# Altium schematic symbol library WP-THRBU.SchLib: 16 symbols
Pins are listed as number, name and electrical type; pins without a type are passive.

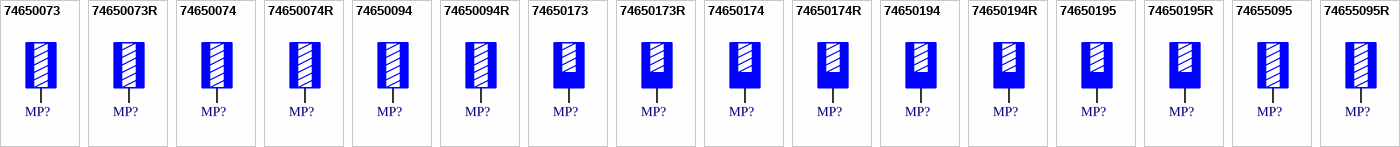
[diagram p0: symbols 74650073 to 74655095R]

## 74650073
designator MP?, comment M3 x 2.5mm  (value not drawn)
WP-THRBU REDCUBE THR internal through-hole thread, M3 x 2.5mm, 50A; Manufacturer Part Number: 74650073; Manufacturer: Wurth Elektronik; Surface: Tin; ComponentLink1Description: Website Link; ComponentLink1URL: https://www.we-online.com/redexpert/article/74650073?ad; ComponentLink2Description: Datasheet Link; ComponentLink2URL: https://www.we-online.com/redexpert/spec/74650073?ad; Category: REDCUBE THR; Match Code: WP-THRBU; Mount: Through Hole Reflow; Operating Temperature Max: 150°C; Operating Temperature Min: -55°C; Packaging: Bulk; Length: 7mm; Width: 7mm; Height: 3mm; Material: Brass; Number of Pins: 4; Rated Current: 50A; Thread Length: 2.5mm; Thread Size: M3
footprint 74650073
pins: 1

## 74650073R
designator MP?, comment M3 x 2.5mm  (value not drawn)
WP-THRBU REDCUBE THR internal through-hole thread, M3 x 2.5mm, 50A; Manufacturer Part Number: 74650073R; Manufacturer: Wurth Elektronik; Surface: Tin; ComponentLink1Description: Website Link; ComponentLink1URL: https://www.we-online.com/redexpert/article/74650073R?ad; ComponentLink2Description: Datasheet Link; ComponentLink2URL: https://www.we-online.com/redexpert/spec/74650073R?ad; Category: REDCUBE THR; Match Code: WP-THRBU; Mount: Through Hole Reflow; Operating Temperature Max: 150°C; Operating Temperature Min: -55°C; Packaging: Tape and Reel; Length: 7mm; Width: 7mm; Height: 3mm; Material: Brass; Number of Pins: 4; Rated Current: 50A; Thread Length: 2.5mm; Thread Size: M3
footprint 74650073
pins: 1

## 74650074
designator MP?, comment M4 x 2.5mm  (value not drawn)
WP-THRBU REDCUBE THR internal through-hole thread, M4 x 2.5mm, 50A; Manufacturer Part Number: 74650074; Manufacturer: Wurth Elektronik; Surface: Tin; ComponentLink1Description: Website Link; ComponentLink1URL: https://www.we-online.com/redexpert/article/74650074?ad; ComponentLink2Description: Datasheet Link; ComponentLink2URL: https://www.we-online.com/redexpert/spec/74650074?ad; Category: REDCUBE THR; Match Code: WP-THRBU; Mount: Through Hole Reflow; Operating Temperature Max: 150°C; Operating Temperature Min: -55°C; Packaging: Bulk; Length: 7mm; Width: 7mm; Height: 3mm; Material: Brass; Number of Pins: 4; Rated Current: 50A; Thread Length: 2.5mm; Thread Size: M4
footprint 74650074
pins: 1

## 74650074R
designator MP?, comment M4 x 2.5mm  (value not drawn)
WP-THRBU REDCUBE THR internal through-hole thread, M4 x 2.5mm, 50A; Manufacturer Part Number: 74650074R; Manufacturer: Wurth Elektronik; Surface: Tin; ComponentLink1Description: Website Link; ComponentLink1URL: https://www.we-online.com/redexpert/article/74650074R?ad; ComponentLink2Description: Datasheet Link; ComponentLink2URL: https://www.we-online.com/redexpert/spec/74650074R?ad; Category: REDCUBE THR; Match Code: WP-THRBU; Mount: Through Hole Reflow; Operating Temperature Max: 150°C; Operating Temperature Min: -55°C; Packaging: Tape and Reel; Length: 7mm; Width: 7mm; Height: 3mm; Material: Brass; Number of Pins: 4; Rated Current: 50A; Thread Length: 2.5mm; Thread Size: M4
footprint 74650074
pins: 1

## 74650094
designator MP?, comment M4 x 3mm  (value not drawn)
WP-THRBU REDCUBE THR internal through-hole thread, M4 x 3mm, 85A; Manufacturer Part Number: 74650094; Manufacturer: Wurth Elektronik; Surface: Tin; ComponentLink1Description: Website Link; ComponentLink1URL: https://www.we-online.com/redexpert/article/74650094?ad; ComponentLink2Description: Datasheet Link; ComponentLink2URL: https://www.we-online.com/redexpert/spec/74650094?ad; Category: REDCUBE THR; Match Code: WP-THRBU; Mount: Through Hole Reflow; Operating Temperature Max: 150°C; Operating Temperature Min: -55°C; Packaging: Bulk; Length: 10mm; Width: 10mm; Height: 3.5mm; Material: Brass; Number of Pins: 8; Rated Current: 85A; Thread Length: 3mm; Thread Size: M4
footprint 74650094
pins: 1

## 74650094R
designator MP?, comment M4 x 3mm  (value not drawn)
WP-THRBU REDCUBE THR internal through-hole thread, M4 x 3mm, 85A; Manufacturer Part Number: 74650094R; Manufacturer: Wurth Elektronik; Surface: Tin; ComponentLink1Description: Website Link; ComponentLink1URL: https://www.we-online.com/redexpert/article/74650094R?ad; ComponentLink2Description: Datasheet Link; ComponentLink2URL: https://www.we-online.com/redexpert/spec/74650094R?ad; Category: REDCUBE THR; Match Code: WP-THRBU; Mount: Through Hole Reflow; Operating Temperature Max: 150°C; Operating Temperature Min: -55°C; Packaging: Tape and Reel; Length: 10mm; Width: 10mm; Height: 3.5mm; Material: Brass; Number of Pins: 8; Rated Current: 85A; Thread Length: 3mm; Thread Size: M4
footprint 74650094
pins: 1

## 74650173
designator MP?, comment M3 x 3.5mm  (value not drawn)
WP-THRBU REDCUBE THR internal blind-hole thread, M3 x 3.5mm, 50A; Manufacturer Part Number: 74650173; Manufacturer: Wurth Elektronik; Surface: Tin; ComponentLink1Description: Website Link; ComponentLink1URL: https://www.we-online.com/redexpert/article/74650173?ad; ComponentLink2Description: Datasheet Link; ComponentLink2URL: https://www.we-online.com/redexpert/spec/74650173?ad; Category: REDCUBE THR; Match Code: WP-THRBU; Mount: Through Hole Reflow; Operating Temperature Max: 150°C; Operating Temperature Min: -55°C; Packaging: Bulk; Length: 7mm; Width: 7mm; Height: 6mm; Material: Brass; Number of Pins: 4; Rated Current: 50A; Thread Length: 3.5mm; Thread Size: M3
footprint 74650173
pins: 1

## 74650173R
designator MP?, comment M3 x 3.5mm  (value not drawn)
WP-THRBU REDCUBE THR internal blind-hole thread, M3 x 3.5mm, 50A; Manufacturer Part Number: 74650173R; Manufacturer: Wurth Elektronik; Surface: Tin; ComponentLink1Description: Website Link; ComponentLink1URL: https://www.we-online.com/redexpert/article/74650173R?ad; ComponentLink2Description: Datasheet Link; ComponentLink2URL: https://www.we-online.com/redexpert/spec/74650173R?ad; Category: REDCUBE THR; Match Code: WP-THRBU; Mount: Through Hole Reflow; Operating Temperature Max: 150°C; Operating Temperature Min: -55°C; Packaging: Tape and Reel; Length: 7mm; Width: 7mm; Height: 6mm; Material: Brass; Number of Pins: 4; Rated Current: 50A; Thread Length: 3.5mm; Thread Size: M3
footprint 74650173
pins: 1

## 74650174
designator MP?, comment M4 x 4mm  (value not drawn)
WP-THRBU REDCUBE THR internal blind-hole thread, M4 x 4mm, 50A; Manufacturer Part Number: 74650174; Manufacturer: Wurth Elektronik; Surface: Tin; ComponentLink1Description: Website Link; ComponentLink1URL: https://www.we-online.com/redexpert/article/74650174?ad; ComponentLink2Description: Datasheet Link; ComponentLink2URL: https://www.we-online.com/redexpert/spec/74650174?ad; Category: REDCUBE THR; Match Code: WP-THRBU; Mount: Through Hole Reflow; Operating Temperature Max: 150°C; Operating Temperature Min: -55°C; Packaging: Bulk; Length: 7mm; Width: 7mm; Height: 6.5mm; Material: Brass; Number of Pins: 4; Rated Current: 50A; Thread Length: 4mm; Thread Size: M4
footprint 74650174
pins: 1

## 74650174R
designator MP?, comment M4 x 4mm  (value not drawn)
WP-THRBU REDCUBE THR internal blind-hole thread, M4 x 4mm, 50A; Manufacturer Part Number: 74650174R; Manufacturer: Wurth Elektronik; Surface: Tin; ComponentLink1Description: Website Link; ComponentLink1URL: https://www.we-online.com/redexpert/article/74650174R?ad; ComponentLink2Description: Datasheet Link; ComponentLink2URL: https://www.we-online.com/redexpert/spec/74650174R?ad; Category: REDCUBE THR; Match Code: WP-THRBU; Mount: Through Hole Reflow; Operating Temperature Max: 150°C; Operating Temperature Min: -55°C; Packaging: Tape and Reel; Length: 7mm; Width: 7mm; Height: 6.5mm; Material: Brass; Number of Pins: 4; Rated Current: 50A; Thread Length: 4mm; Thread Size: M4
footprint 74650174
pins: 1

## 74650194
designator MP?, comment M4 x 4mm  (value not drawn)
WP-THRBU REDCUBE THR internal blind-hole thread, M4 x 4mm, 85A; Manufacturer Part Number: 74650194; Manufacturer: Wurth Elektronik; Surface: Tin; ComponentLink1Description: Website Link; ComponentLink1URL: https://www.we-online.com/redexpert/article/74650194?ad; ComponentLink2Description: Datasheet Link; ComponentLink2URL: https://www.we-online.com/redexpert/spec/74650194?ad; Category: REDCUBE THR; Match Code: WP-THRBU; Mount: Through Hole Reflow; Operating Temperature Max: 150°C; Operating Temperature Min: -55°C; Packaging: Bulk; Length: 10mm; Width: 10mm; Height: 7mm; Material: Brass; Number of Pins: 9; Rated Current: 85A; Thread Length: 4mm; Thread Size: M4
footprint 74650194
pins: 1

## 74650194R
designator MP?, comment M4 x 4mm  (value not drawn)
WP-THRBU REDCUBE THR internal blind-hole thread, M4 x 4mm, 85A; Manufacturer Part Number: 74650194R; Manufacturer: Wurth Elektronik; Surface: Tin; ComponentLink1Description: Website Link; ComponentLink1URL: https://www.we-online.com/redexpert/article/74650194R?ad; ComponentLink2Description: Datasheet Link; ComponentLink2URL: https://www.we-online.com/redexpert/spec/74650194R?ad; Category: REDCUBE THR; Match Code: WP-THRBU; Mount: Through Hole Reflow; Operating Temperature Max: 150°C; Operating Temperature Min: -55°C; Packaging: Tape and Reel; Length: 10mm; Width: 10mm; Height: 7mm; Material: Brass; Number of Pins: 9; Rated Current: 85A; Thread Length: 4mm; Thread Size: M4
footprint 74650194
pins: 1

## 74650195
designator MP?, comment M5 x 4mm  (value not drawn)
WP-THRBU REDCUBE THR internal blind-hole thread, M5 x 4mm, 85A; Manufacturer Part Number: 74650195; Manufacturer: Wurth Elektronik; Surface: Tin; ComponentLink1Description: Website Link; ComponentLink1URL: https://www.we-online.com/redexpert/article/74650195?ad; ComponentLink2Description: Datasheet Link; ComponentLink2URL: https://www.we-online.com/redexpert/spec/74650195?ad; Category: REDCUBE THR; Match Code: WP-THRBU; Mount: Through Hole Reflow; Operating Temperature Max: 150°C; Operating Temperature Min: -55°C; Packaging: Bulk; Length: 10mm; Width: 10mm; Height: 7mm; Material: Brass; Number of Pins: 9; Rated Current: 85A; Thread Length: 4mm; Thread Size: M5
footprint 74650195
pins: 1

## 74650195R
designator MP?, comment M5 x 4mm  (value not drawn)
WP-THRBU REDCUBE THR internal blind-hole thread, M5 x 4mm, 85A; Manufacturer Part Number: 74650195R; Manufacturer: Wurth Elektronik; Surface: Tin; ComponentLink1Description: Website Link; ComponentLink1URL: https://www.we-online.com/redexpert/article/74650195R?ad; ComponentLink2Description: Datasheet Link; ComponentLink2URL: https://www.we-online.com/redexpert/spec/74650195R?ad; Category: REDCUBE THR; Match Code: WP-THRBU; Mount: Through Hole Reflow; Operating Temperature Max: 150°C; Operating Temperature Min: -55°C; Packaging: Tape and Reel; Length: 10mm; Width: 10mm; Height: 7mm; Material: Brass; Number of Pins: 9; Rated Current: 85A; Thread Length: 4mm; Thread Size: M5
footprint 74650195
pins: 1

## 74655095
designator MP?, comment M5 x 3.5mm  (value not drawn)
WP-THRBU REDCUBE THR internal through-hole thread, M5 x 3.5mm, 85A; Manufacturer Part Number: 74655095; Manufacturer: Wurth Elektronik; Surface: Tin; ComponentLink1Description: Website Link; ComponentLink1URL: https://www.we-online.com/redexpert/article/74655095?ad; ComponentLink2Description: Datasheet Link; ComponentLink2URL: https://www.we-online.com/redexpert/spec/74655095?ad; Category: REDCUBE THR; Match Code: WP-THRBU; Mount: Through Hole Reflow; Operating Temperature Max: 150°C; Operating Temperature Min: -55°C; Packaging: Bulk; Length: 10mm; Width: 10mm; Height: 4mm; Material: Brass; Number of Pins: 8; Rated Current: 85A; Thread Length: 3.5mm; Thread Size: M5
footprint 74655095
pins: 1

## 74655095R
designator MP?, comment M5 x 3.5mm  (value not drawn)
WP-THRBU REDCUBE THR internal through-hole thread, M5 x 3.5mm, 85A; Manufacturer Part Number: 74655095R; Manufacturer: Wurth Elektronik; Surface: Tin; ComponentLink1Description: Website Link; ComponentLink1URL: https://www.we-online.com/redexpert/article/74655095R?ad; ComponentLink2Description: Datasheet Link; ComponentLink2URL: https://www.we-online.com/redexpert/spec/74655095R?ad; Category: REDCUBE THR; Match Code: WP-THRBU; Mount: Through Hole Reflow; Operating Temperature Max: 150°C; Operating Temperature Min: -55°C; Packaging: Tape and Reel; Length: 10mm; Width: 10mm; Height: 4mm; Material: Brass; Number of Pins: 8; Rated Current: 85A; Thread Length: 3.5mm; Thread Size: M5
footprint 74655095
pins: 1